# Altium schematic symbol library Passive.SchLib: 6 symbols
Pins are listed as number, name and electrical type; pins without a type are passive.

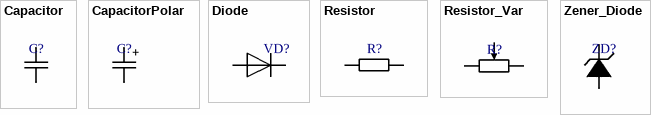
[diagram p0: symbols Capacitor to Zener_Diode]

## Capacitor
designator C?  (value not drawn)
footprint SM1206
pins: 1, 2

## CapacitorPolar
designator C?  (value not drawn)
footprint CAP_RAD_13_21
pins: 1, 2
text: +

## Diode
designator VD?  (value not drawn)
footprint DIODE_DO-35
footprint DIODE_SM1206
pins: 1, 2

## Resistor
designator R?  (value not drawn)
footprint SM1206
pins: 1, 2

## Resistor_Var
designator R?  (value not drawn)
pins: 1, 2, 3 (power)

## Zener_Diode
designator ZD?  (value not drawn)
pins: 1, 2